# Altium schematic symbol library Passives.SchLib: 33 symbols
Pins are listed as number, name and electrical type; pins without a type are passive.

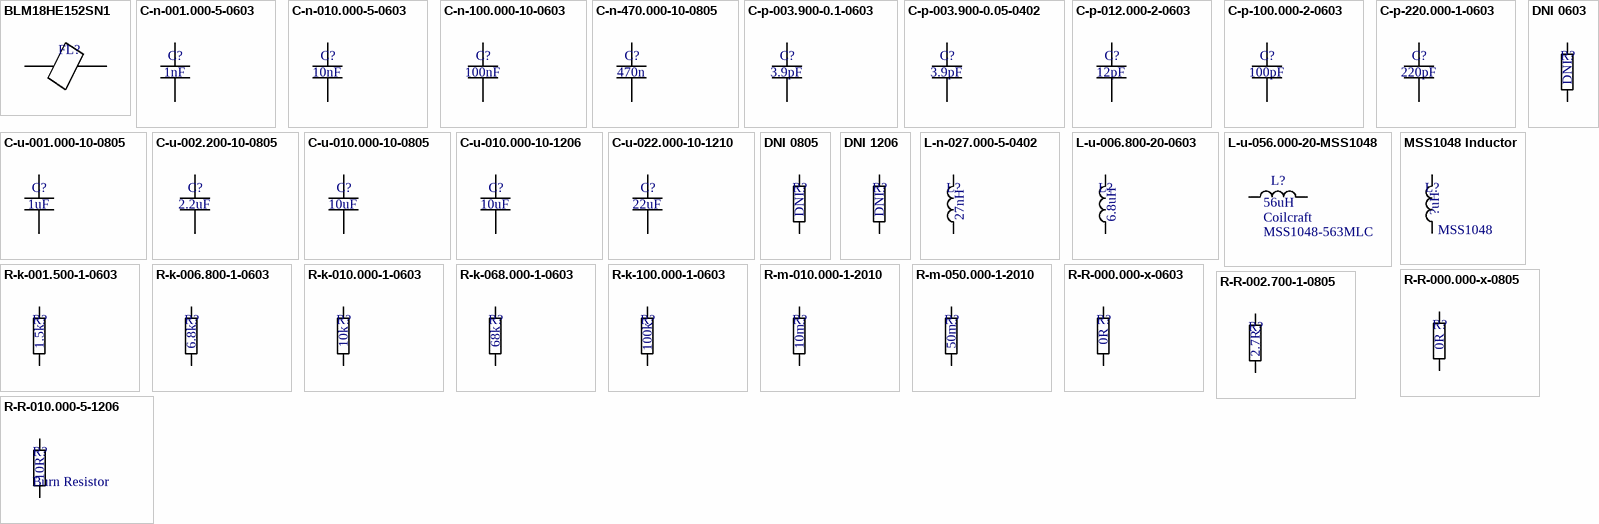
[diagram p0: symbols BLM18HE152SN1 to R-R-010.000-5-1206]

## BLM18HE152SN1
designator FL?  (value not drawn)
Ferrite Bead; Manufacturer: Murata; Manufacturer PartNo: BLM18HE152SN1; Value: 1k5 @ 100MHz; Case/Package: *
footprint 0603 (Inductor)
pins: 1, 2

## C-n-001.000-5-0603
designator C?  value 1nF  (hidden comment: *)
Capacitor 1nF 0603 +/-5%; Manufacturer: Murata; Manufacturer PartNo: GCM1885C2A102JA16D; Case/Package: 0603; Tolerance: +/-5%
footprint 0603 (Capacitor)
pins: 1, 2

## C-n-010.000-5-0603
designator C?  value 10nF  (hidden comment: *)
Capacitor 10nF 0603 +/-5%; Manufacturer: Murata; Manufacturer PartNo: GRM1885C1H103JA01D; Case/Package: 0603; Tolerance: +/-5%
footprint 0603 (Capacitor)
pins: 1, 2

## C-n-100.000-10-0603
designator C?  value 100nF  (hidden comment: *)
Capacitor 100nF 0603 +/-10%; Manufacturer: Murata; Manufacturer PartNo: GRM188R72A104KA35D; Case/Package: 0603; Tolerance: +/-10%
footprint 0603 (Capacitor)
pins: 1, 2

## C-n-470.000-10-0805
designator C?  value 470n  (hidden comment: *)
Capacitor 470nF 0805 +/-10%; Manufacturer: Murata; Manufacturer PartNo: GRM21BR71H474KA88K; Case/Package: 0805; Tolerance: +/-10%
footprint 0805 (Capacitor)
pins: 1, 2

## C-p-003.900-0.1-0603
designator C?  value 3.9pF  (hidden comment: *)
Capacitor 3.9pF 0603 +/-0.1pF; Manufacturer: Murata; Manufacturer PartNo: GQM1875C2E3R9BB12D; Case/Package: 0603; Tolerance: +/-0.1pF
footprint 0603 (Capacitor)
pins: 1, 2

## C-p-003.900-0.05-0402
designator C?  value 3.9pF  (hidden comment: *)
Capacitor 3.9pF 0402 +/-0.05pF; Manufacturer: Murata; Manufacturer PartNo: GJM1555C1H3R9WB01D; Case/Package: 0402; Tolerance: +/-0.05pF
footprint 0402 (Capacitor)
pins: 1, 2

## C-p-012.000-2-0603
designator C?  value 12pF  (hidden comment: *)
Capacitor 12pF 0603 +/-2%; Manufacturer: Murata; Manufacturer PartNo: GQM1875C2E120GB12D; Case/Package: 0603; Tolerance: +/-2%
footprint 0603 (Capacitor)
pins: 1, 2

## C-p-100.000-2-0603
designator C?  value 100pF  (hidden comment: *)
Capacitor 100pF 0603 +/-2%; Manufacturer: Murata; Manufacturer PartNo: GQM1875C2E101GB12D; Case/Package: 0603; Tolerance: +/-2%
footprint 0603 (Capacitor)
pins: 1, 2

## C-p-220.000-1-0603
designator C?  value 220pF  (hidden comment: *)
Capacitor 220pF 0603 +/-1%; Manufacturer: Murata; Manufacturer PartNo: GCM1885C2A221FA16D; Case/Package: 0603; Tolerance: +/-1%
footprint 0603 (Capacitor)
pins: 1, 2

## C-u-001.000-10-0805
designator C?  value 1uF  (hidden comment: *)
Capacitor 1uF 0805 +/-10%; Manufacturer: Murata; Manufacturer PartNo: GCM21BR71H105KA03L; Case/Package: 0805; Tolerance: +/-10%
footprint 0805 (Capacitor)
pins: 1, 2

## C-u-002.200-10-0805
designator C?  value 2.2uF  (hidden comment: *)
Capacitor 2.2uF 0805 +/-10%; Manufacturer: Murata; Manufacturer PartNo: GCM21BR71E225KA73L; Case/Package: 0805; Tolerance: +/-10%
footprint 0805 (Capacitor)
pins: 1, 2

## C-u-010.000-10-0805
designator C?  value 10uF  (hidden comment: *)
Capacitor 10uF 0805 +/-10%; Manufacturer: Murata; Manufacturer PartNo: GRM21BR61H106KE43L; Case/Package: 0805; Tolerance: +/-10%
footprint 0805 (Capacitor)
pins: 1, 2

## C-u-010.000-10-1206
designator C?  value 10uF  (hidden comment: *)
Capacitor 10uF 1206 +/-10%; Manufacturer: TDK; Manufacturer PartNo: CGA5L1X7R1H106K160AC; Case/Package: 1206; Tolerance: +/-10%
footprint 1206 (Capacitor)
pins: 1, 2

## C-u-022.000-10-1210
designator C?  value 22uF  (hidden comment: *)
Capacitor 22uF 1210 +/-10%; Manufacturer: Murata Electronics; Manufacturer PartNo: GRM32ER71E226KE15L; Case/Package: 1210; Tolerance: +/-10%
footprint 1210 (Capacitor)
pins: 1, 2

## DNI 0603
designator R?  value DNI  (hidden comment: *)
DNI 0603 Passive; Case/Package: 0603
footprint 0603 (Resistor)
pins: 1, 2

## DNI 0805
designator R?  value DNI  (hidden comment: *)
DNI 0805 Passive; Case/Package: 0805
footprint 0805 (Resistor)
pins: 1, 2

## DNI 1206
designator R?  value DNI  (hidden comment: *)
DNI 1206 Passive; Case/Package: 1206
footprint 1206 (Resistor)
pins: 1, 2

## L-n-027.000-5-0402
designator L?  value 27nH  (hidden comment: *)
Inductor 27nH 0402 +/-5%; Manufacturer: Murata; Manufacturer PartNo: LQG15HS27NJ02D; Tolerance: +/-5%; Case/Package: 0402
footprint 0402 (Inductor)
footprint 4426R-9 (Inductor)
pins: 1, 2

## L-u-006.800-20-0603
designator L?  value 6.8uH  (hidden comment: *)
Inductor 6.8uH 0805 +/-20%; Manufacturer: TDK; Manufacturer PartNo: MLZ2012N6R8LT000; Tolerance: +/-20%; Case/Package: 0805
footprint 0805 (Inductor)
pins: 1, 2

## L-u-056.000-20-MSS1048
designator L?  value 56uH  Manufacturer PartNo: MSS1048-563MLC  Manufacturer: Coilcraft  (hidden comment: *)
Coilcraft MSS1048 Series Inductor
footprint MSS1048 (Inductor) (CoilCraft MSS1048 Series Inductor)
pins: 1, 2

## MSS1048 Inductor
designator L?  value ?uH  Manufacturer PartNo: MSS1048
Coilcraft MSS1048 Series Inductor
footprint MSS1048 (Inductor) (CoilCraft MSS1048 Series Inductor)
pins: 1, 2

## R-k-001.500-1-0603
designator R?  value 1.5k  (hidden comment: *)
Resistor 1.5k 0603 +/-1%; Manufacturer: Vishay Dale; Manufacturer PartNo: CRCW06031K50FKEAHP; Tolerance: +/-1%; Case/Package: 0603
footprint 0603 (Resistor)
pins: 1, 2

## R-k-006.800-1-0603
designator R?  value 6.8k  (hidden comment: *)
Resistor 6.8k 0603 +/-1%; Manufacturer: Vishay Dale; Manufacturer PartNo: CRCW06036K80FKEA; Tolerance: +/-1%; Case/Package: 0603
footprint 0603 (Resistor)
pins: 1, 2

## R-k-010.000-1-0603
designator R?  value 10k  (hidden comment: *)
Resistor 10k 0603 +/-1%; Manufacturer: Vishay Dale; Manufacturer PartNo: CRCW060310K0FKEAHP; Tolerance: +/-1%; Case/Package: 0603
footprint 0603 (Resistor)
pins: 1, 2

## R-k-068.000-1-0603
designator R?  value 68k  (hidden comment: *)
Resistor 68k 0603 +/-1%; Manufacturer: Vishay Dale; Manufacturer PartNo: CRCW060368K0FKEAHP; Tolerance: +/-1%; Case/Package: 0603
footprint 0603 (Resistor)
pins: 1, 2

## R-k-100.000-1-0603
designator R?  value 100k  (hidden comment: *)
Resistor 100k 0603 +/-1%; Manufacturer: Vishay Dale; Manufacturer PartNo: CRCW0603100KFKEAHP; Tolerance: +/-1%; Case/Package: 0603
footprint 0603 (Resistor)
pins: 1, 2

## R-m-010.000-1-2010
designator R?  value 10m  (hidden comment: *)
Resistor 10m 2010 +/-1%; Manufacturer: Vishay Dale; Manufacturer PartNo: WSL2010R0100FEA18; Tolerance: +/-1%; Case/Package: 2010
footprint 2010 (Resistor)
pins: 1, 2

## R-m-050.000-1-2010
designator R?  value 50m  (hidden comment: *)
Resistor 50m 2010 +/-1%; Manufacturer: Vishay Dale; Manufacturer PartNo: WSL2010R0500FEA18; Tolerance: +/-1%; Case/Package: 2010
footprint 2010 (Resistor)
pins: 1, 2

## R-R-000.000-x-0603
designator R?  value 0R  (hidden comment: *)
Resistor 0R 0603; Manufacturer: Vishay Dale; Manufacturer PartNo: WSL060300000ZEA9; Case/Package: 0603
footprint 0603 (Resistor)
pins: 1, 2

## R-R-000.000-x-0805
designator R?  value 0R  (hidden comment: *)
Resistor 0R 0805; Manufacturer: Vishay Dale; Manufacturer PartNo: WSL080500000ZEA9; Case/Package: 0805
footprint 0805 (Resistor)
pins: 1, 2

## R-R-002.700-1-0805
designator R?  value 2.7R  (hidden comment: *)
Resistor 2.7R 0805 +/-1%; Manufacturer: Vishay Dale; Manufacturer PartNo: CRCW08052R70FKEA; Tolerance: +/-1%; Case/Package: 0805
footprint 0805 (Resistor)
pins: 1, 2

## R-R-010.000-5-1206
designator R?, comment Burn Resistor  value 10R
5V Burn Resistor; Manufacturer: Vishay Dale; Manufacturer PartNo: CRCW120610R0JNEAHP; Tolerance: +/-5%; Case/Package: 1206
footprint 1206 (Resistor)
pins: 1, 2